# EAGLE library part IL300-DEFG (library IL300-DEFG)
Linear Optocoupler, High Gain Stability, Wide Bandwidth
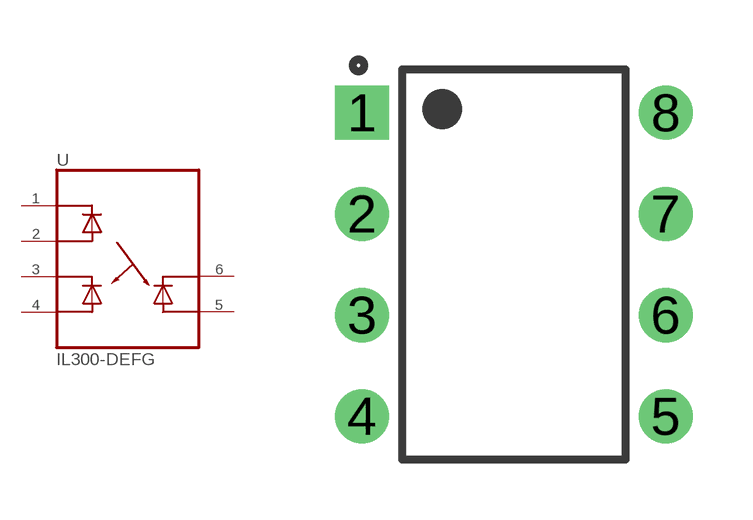
[diagram p0: symbol with the pads of DIP762W50P254L977H451Q8; footprint DIP762W50P254L977H451Q8]

Designator prefix U

## IL300-DEFG (Description: IL300 Series Single Channel 5300 Vrms Wide Bandwidth Linear Optocoupler - DIP-8; Digi-Key_Part_Number: 751-1293-5-ND; Digi-Key_Purchase_URL: https://www.digikey.com/product-detail/en/vishay-semiconductor-opto-division/IL300-DEFG/751-1293-5-ND/1731526?utm_source=snapeda&utm_medium=aggregator&utm_campaign=symbol; MF: Vishay Semiconductor; MP: IL300-DEFG; Package: DIP-8 Vishay)  [DIP762W50P254L977H451Q8]
1  C1  pas
2  A1  pas
3  C2  pas
4  A2  pas
5  A3  pas
6  C3  pas

## Footprint DIP762W50P254L977H451Q8 (pad centres in mm)
drill 0.85 pad 1.35 square: 1 -3.81,3.81
drill 0.85 pad 1.35: 2 -3.81,1.27; 3 -3.81,-1.27; 4 -3.81,-3.81; 5 3.81,-3.81; 6 3.81,-1.27; 7 3.81,1.27; 8 3.81,3.81